# Altium schematic symbol library SamacSys.SchLib: 215 symbols (part 1 of 3)
Pins are listed as number, name and electrical type; pins without a type are passive.

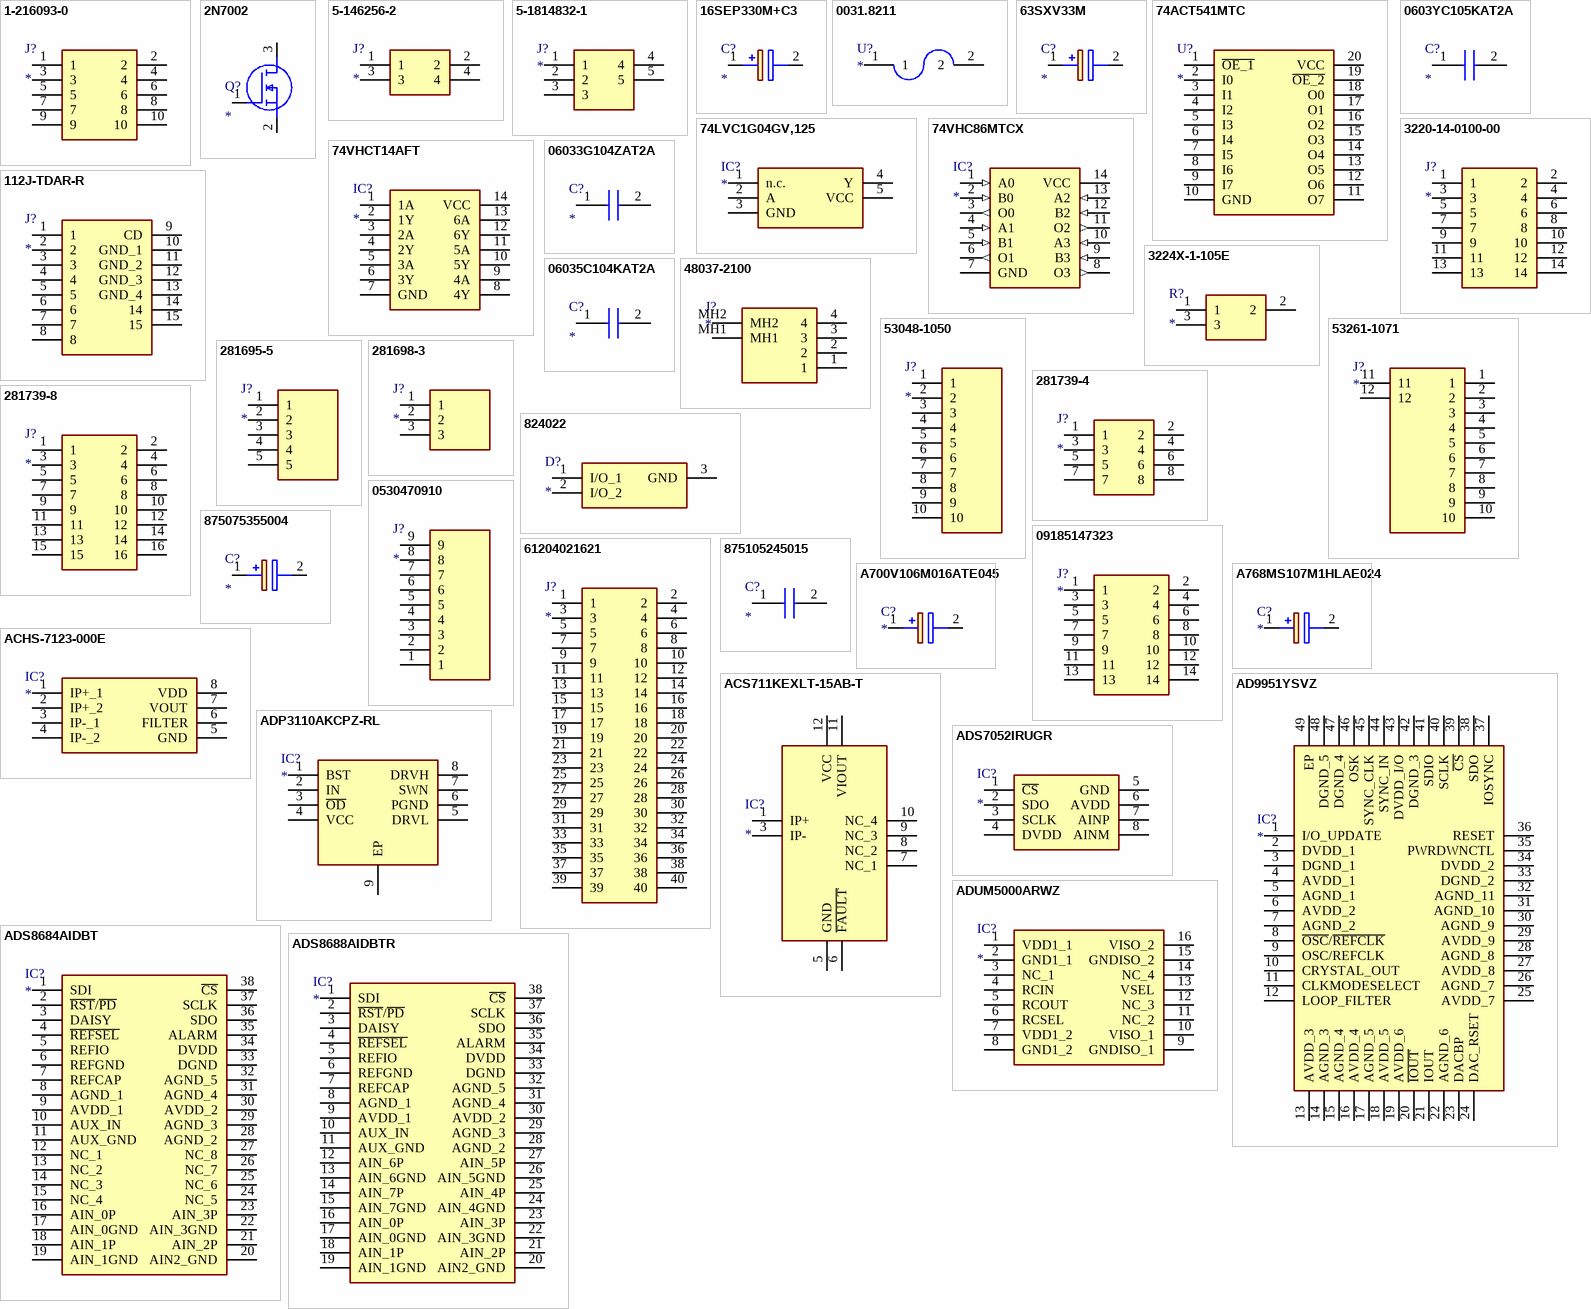
[diagram p0: symbols 1-216093-0 to ADUM5000ARWZ]

## 1-216093-0
designator J?
Connector; Manufacturer_Name: TE Connectivity; Manufacturer_Part_Number: 1-216093-0; Datasheet Link: https://componentsearchengine.com/Datasheets/2/1-216093-0.pdf; Height: 6.8mm; Mouser Part Number: 571-1-216093-0; Mouser Price/Stock: https://www.mouser.co.uk/ProductDetail/TE-Connectivity/1-216093-0?qs=m7RwewakXS%2F9HSJylQnIAQ%3D%3D; Arrow Part Number: 1-216093-0; Arrow Price/Stock: https://www.arrow.com/en/products/1-216093-0/te-connectivity?region=europe
footprint 12160930
pins: 1, 2, 3, 4, 5, 6, 7, 8, 9, 10

## 2N7002
designator Q?
MOSFET (N-Channel); Manufacturer_Name: Vishay; Manufacturer_Part_Number: 2N7002; Datasheet Link: https://www.diodes.com/assets/Datasheets/ds11303.pdf; Height: 1.2mm; Mouser Part Number: 781-2N7002; Mouser Price/Stock: https://www.mouser.co.uk/ProductDetail/Vishay-Siliconix/2N7002?qs=xBpwZ0JX2zKeuvZKtdYLZQ%3D%3D
footprint SOT96P240X120-3N
pins: 1 G, 2 S, 3 D

## 5-146256-2
designator J?
Connector; Manufacturer_Name: TE Connectivity; Manufacturer_Part_Number: 5-146256-2; Datasheet Link: http://www.mouser.com/ds/2/418/NG_CD_146256_H-649289.pdf; Height: 8.21mm; Mouser Part Number: 571-5-146256-2; Mouser Price/Stock: https://www.mouser.co.uk/ProductDetail/TE-Connectivity/5-146256-2?qs=bwpFY26eRVdXggapabV2vQ%3D%3D; Arrow Part Number: 5-146256-2; Arrow Price/Stock: https://www.arrow.com/en/products/5-146256-2/te-connectivity?region=nac
footprint HDRV4W77P254_2X2_467X488X821P
pins: 1, 2, 3, 4

## 5-1814832-1
designator J?
Connector; Manufacturer_Name: TE Connectivity; Manufacturer_Part_Number: 5-1814832-1; Datasheet Link: http://www.te.com/commerce/DocumentDelivery/DDEController?Action=srchrtrv&DocNm=1814832&DocType=Customer+Drawing&DocLang=English; Mouser Part Number: 571-5-1814832-1; Mouser Price/Stock: https://www.mouser.co.uk/ProductDetail/TE-Connectivity/5-1814832-1?qs=eORE%252BZ%252B0CrsFkn5eoDRxyQ%3D%3D; Arrow Part Number: 5-1814832-1; Arrow Price/Stock: https://www.arrow.com/en/products/5-1814832-1/te-connectivity
footprint 5-1814832-1
pins: 1, 2, 3, 4, 5

## 16SEP330M+C3
designator C?
Capacitor Polarised; Manufacturer_Name: Panasonic; Manufacturer_Part_Number: 16SEP330M+C3; Datasheet Link: http://industrial.panasonic.com/cdbs/www-data/pdf/AAB8000/AAB8000C244.pdf; Height: 13mm
footprint CAPPRD500W65D1000H1300
pins: 1 +, 2 -

## 0031.8211
designator U?
Undefined or Miscellaneous; Manufacturer_Name: SCHURTER; Manufacturer_Part_Number: 0031.8211; Datasheet Link: https://datasheet.datasheetarchive.com/originals/distributors/Datasheets-AE/DSA3AE0000214.pdf; Height: 12.7mm; Mouser Part Number: 693-0031.8211; Mouser Price/Stock: https://www.mouser.co.uk/ProductDetail/Schurter/0031.8211?qs=A3q0b2L5bfhm%2FLmypQkxqA%3D%3D; Arrow Part Number: 0031.8211; Arrow Price/Stock: https://www.arrow.com/en/products/0031.8211/schurter?region=europe
footprint 00318211
pins: 1, 2

## 63SXV33M
designator C?
Capacitor Polarised; Manufacturer_Name: Panasonic; Manufacturer_Part_Number: 63SXV33M; Datasheet Link: http://industrial.panasonic.com/cdbs/www-data/pdf/AAB8000/AAB8000C259.pdf; Height: 12mm; Mouser Part Number: 667-63SXV33M; Mouser Price/Stock: https://www.mouser.co.uk/ProductDetail/Panasonic/63SXV33M?qs=LkACrQhHtvC3OEKZ9h0MUg%3D%3D; Arrow Part Number: 63SXV33M; Arrow Price/Stock: https://www.arrow.com/en/products/63sxv33m/panasonic?region=nac
footprint 16SVPT560M
pins: 1 +, 2 -

## 74ACT541MTC
designator U?
Undefined or Miscellaneous; Manufacturer_Name: ON Semiconductor; Manufacturer_Part_Number: 74ACT541MTC; Datasheet Link: http://componentsearchengine.com/Datasheets/3/74ACT541MTC.pdf; Height: 1.2mm; Mouser Part Number: 512-74ACT541MTC; Mouser Price/Stock: https://www.mouser.co.uk/ProductDetail/ON-Semiconductor-Fairchild/74ACT541MTC?qs=LU5rZWrBGo0UUOz6%2FnzTVw%3D%3D; Arrow Part Number: 74ACT541MTC; Arrow Price/Stock: https://www.arrow.com/en/products/74act541mtc/on-semiconductor
footprint SOP65P640X120-20N
pins: 1 ~{OE_1}, 2 I0, 3 I1, 4 I2, 5 I3, 6 I4, 7 I5, 8 I6, 9 I7, 10 GND, 11 O7, 12 O6, 13 O5, 14 O4, 15 O3, 16 O2, 17 O1, 18 O0, 19 ~{OE_2}, 20 VCC

## 74LVC1G04GV,125
designator IC?
Integrated Circuit; Manufacturer_Name: Nexperia; Manufacturer_Part_Number: 74LVC1G04GV,125; Datasheet Link: https://assets.nexperia.com/documents/data-sheet/74LVC1G04.pdf; Height: 1.1mm; Mouser Part Number: 771-74LVC1G04GV; Mouser Price/Stock: https://www.mouser.co.uk/ProductDetail/Nexperia/74LVC1G04GV125?qs=me8TqzrmIYW6McwMAxl%2F9w%3D%3D; Arrow Part Number: 74LVC1G04GV,125; Arrow Price/Stock: https://www.arrow.com/en/products/74lvc1g04gv125/nexperia
footprint SOT95P275X110-5N
pins: 1 n.c., 2 A, 3 GND, 4 Y, 5 VCC

## 74VHC86MTCX
designator IC?
Integrated Circuit; Manufacturer_Name: onsemi; Manufacturer_Part_Number: 74VHC86MTCX; Datasheet Link: https://www.mouser.ch/datasheet/2/308/74VHC86_D-2309908.pdf; Height: 1.2mm; Mouser Part Number: 512-74VHC86MTCX; Mouser Price/Stock: https://www.mouser.co.uk/ProductDetail/ON-Semiconductor-Fairchild/74VHC86MTCX?qs=TzyeOYydVKV63btw14td%252BQ%3D%3D; Arrow Part Number: 74VHC86MTCX; Arrow Price/Stock: https://www.arrow.com/en/products/74vhc86mtcx/on-semiconductor
footprint SOP65P640X120-14N
pins: 1 A0 (in), 2 B0 (in), 3 O0 (out), 4 A1 (in), 5 B1 (in), 6 O1 (out), 7 GND (power), 8 O3 (out), 9 B3 (in), 10 A3 (in), 11 O2 (out), 12 B2 (in), 13 A2 (in), 14 VCC (power)

## 74VHCT14AFT
designator IC?
Integrated Circuit; Manufacturer_Name: Toshiba; Manufacturer_Part_Number: 74VHCT14AFT; Datasheet Link: http://uk.rs-online.com/web/p/products/1713361; Height: 1.2mm; Mouser Part Number: N/A; Mouser Price/Stock: https://www.mouser.com/Search/Refine.aspx?Keyword=N%2FA
footprint SOP65P640X120-14N
pins: 1 1A, 2 1Y, 3 2A, 4 2Y, 5 3A, 6 3Y, 7 GND, 8 4Y, 9 4A, 10 5Y, 11 5A, 12 6Y, 13 6A, 14 VCC

## 112J-TDAR-R
designator J?
Connector; Manufacturer_Name: ATTEND; Manufacturer_Part_Number: 112J-TDAR-R; Datasheet Link: https://sds.compel.ru/item-pdf/04106748b1d2c9285eaa335c34b51c16/ps/attend~112j-tdar-r.pdf; Height: 1mm
footprint 112JTDARR
pins: 1, 2, 3, 4, 5, 6, 7, 8, 9 CD, 10 GND_1, 11 GND_2, 12 GND_3, 13 GND_4, 14, 15

## 0603YC105KAT2A
designator C?
Capacitor; Manufacturer_Name: AVX; Manufacturer_Part_Number: 0603YC105KAT2A; Datasheet Link: http://www.mouser.com/catalog/supplier/library/pdf/AVXSurfaceMountCeramic.pdf; Height: 0.9mm; Mouser Part Number: 581-0603YC105KAT2A; Mouser Price/Stock: https://www.mouser.co.uk/ProductDetail/AVX/0603YC105KAT2A?qs=oZHZyJ9sPsF0nYEZ1SOhJA%3D%3D; Arrow Part Number: 0603YC105KAT2A; Arrow Price/Stock: https://www.arrow.com/en/products/0603yc105kat2a/avx?region=nac
footprint CAPC1608X90N
pins: 1, 2

## 3220-14-0100-00
designator J?
Connector; Manufacturer_Name: CNC Tech; Manufacturer_Part_Number: 3220-14-0100-00; Datasheet Link: https://datasheet.datasheetarchive.com/originals/dk/DKDS-7/133059.pdf; Height: 5.6mm
footprint 322014010000
pins: 1, 2, 3, 4, 5, 6, 7, 8, 9, 10, 11, 12, 13, 14

## 3224X-1-105E
designator R?
Resistor; Manufacturer_Name: Bourns; Manufacturer_Part_Number: 3224X-1-105E; Datasheet Link: https://www.bourns.com/docs/Product-Datasheets/3224.pdf; Height: 5mm; Mouser Part Number: 652-3224X-1-105E; Mouser Price/Stock: https://www.mouser.co.uk/ProductDetail/Bourns/3224X-1-105E?qs=tEaODSGlU8OES45Zo8R5qQ%3D%3D; Arrow Part Number: 3224X-1-105E; Arrow Price/Stock: https://www.arrow.com/en/products/3224x-1-105e/bourns?region=nac
footprint 3224X1502E
pins: 1, 2, 3

## 06033G104ZAT2A
designator C?
Capacitor; Manufacturer_Name: AVX; Manufacturer_Part_Number: 06033G104ZAT2A; Datasheet Link: http://www.mouser.com/catalog/supplier/library/pdf/AVXSurfaceMountCeramic.pdf; Height: 0.9mm; Mouser Part Number: 581-06033G104Z; Mouser Price/Stock: https://www.mouser.co.uk/ProductDetail/AVX/06033G104ZAT2A?qs=NXubJDmysXJMPmHfVo6Z%252BA%3D%3D; Arrow Part Number: 06033G104ZAT2A; Arrow Price/Stock: https://www.arrow.com/en/products/06033g104zat2a/avx?region=nac
footprint CAPC1608X90N
pins: 1, 2

## 06035C104KAT2A
designator C?
Capacitor; Manufacturer_Name: AVX; Manufacturer_Part_Number: 06035C104KAT2A; Datasheet Link: http://datasheets.avx.com/X7RDielectric.pdf; Height: 0.9mm; Mouser Part Number: 581-06035C104KAT2A; Mouser Price/Stock: https://www.mouser.co.uk/ProductDetail/AVX/06035C104KAT2A?qs=wORnlwVG%2F0dQ8Y%2FnMEnCGg%3D%3D; Arrow Part Number: 06035C104KAT2A; Arrow Price/Stock: https://www.arrow.com/en/products/06035c104kat2a/avx?region=europe
footprint CAPC1608X90N
pins: 1, 2

## 48037-2100
designator J?
Connector; Manufacturer_Name: Molex; Manufacturer_Part_Number: 48037-2100; Datasheet Link: https://componentsearchengine.com/Datasheets/1/48037-2100.pdf; Height: 4.5mm; Mouser Part Number: 538-48037-2100; Mouser Price/Stock: https://www.mouser.co.uk/ProductDetail/Molex/48037-2100?qs=Zgxf4oYje4F2MlwVpzV45Q%3D%3D
footprint 480372100
pins: 1, 2, 3, 4, MH1, MH2

## 53048-1050
designator J?
Connector; Manufacturer_Name: Molex; Manufacturer_Part_Number: 53048-1050; Datasheet Link: https://www.mouser.com/datasheet/2/276/0530481050_PCB_HEADERS-1532231.pdf; Height: 3.5mm; Mouser Part Number: 538-53048-1050; Mouser Price/Stock: https://www.mouser.co.uk/ProductDetail/Molex/53048-1050?qs=0lSvoLzn4L%252B50FRVV9pEsg%3D%3D
footprint SHDRRA10W25P0X125_1X10_1425X550X350P
pins: 1, 2, 3, 4, 5, 6, 7, 8, 9, 10

## 53261-1071
designator J?
Connector; Manufacturer_Name: Molex; Manufacturer_Part_Number: 53261-1071; Datasheet Link: https://www.molex.com/webdocs/datasheets/pdf/en-us/0532611071_PCB_HEADERS.pdf; Height: 3mm; Mouser Part Number: 538-53261-1071; Mouser Price/Stock: https://www.mouser.co.uk/ProductDetail/Molex/53261-1071?qs=%252B72YyncTwW%252Bzs3RwZTiukQ%3D%3D
footprint 532611071
pins: 1, 2, 3, 4, 5, 6, 7, 8, 9, 10, 11, 12

## 281695-5
designator J?
Connector; Manufacturer_Name: TE Connectivity; Manufacturer_Part_Number: 281695-5; Datasheet Link: https://componentsearchengine.com/Datasheets/2/281695-5.pdf; Height: 11.4mm; Mouser Part Number: 571-281695-5; Mouser Price/Stock: https://www.mouser.co.uk/ProductDetail/TE-Connectivity/281695-5?qs=haDgrSvkbl%252BIukkO2ss87w%3D%3D; Arrow Part Number: 281695-5; Arrow Price/Stock: https://www.arrow.com/en/products/281695-5/te-connectivity?region=nac
footprint SHDR5W65P0X254_1X5_1270X508X1140P
pins: 1, 2, 3, 4, 5

## 281698-3
designator J?
Connector; Manufacturer_Name: TE Connectivity; Manufacturer_Part_Number: 281698-3; Datasheet Link: http://www.te.com/commerce/DocumentDelivery/DDEController?Action=showdoc&DocId=Customer+Drawing%7F281698%7FG1%7Fpdf%7FEnglish%7FENG_CD_281698_G1.pdf%7F281698-3; Height: 5.08mm; Mouser Part Number: 571-281698-3; Mouser Price/Stock: https://www.mouser.co.uk/ProductDetail/TE-Connectivity/281698-3?qs=haDgrSvkbl92Dq0gx1tdRA%3D%3D; Arrow Part Number: 281698-3; Arrow Price/Stock: https://www.arrow.com/en/products/281698-3/te-connectivity?region=europe
footprint SHDRRA3W65P0X254_1X3_762X1070X508P
pins: 1, 2, 3

## 281739-4
designator J?
Connector; Manufacturer_Name: TE Connectivity; Manufacturer_Part_Number: 281739-4; Datasheet Link: http://uk.rs-online.com/web/p/pcb-headers/532052/?source=DS; Height: 11.5mm; Mouser Part Number: 571-281739-4; Mouser Price/Stock: https://www.mouser.co.uk/ProductDetail/TE-Connectivity/281739-4?qs=Nd1%2FbcG3cCIEra07UNqvhw%3D%3D; Arrow Part Number: 281739-4; Arrow Price/Stock: https://www.arrow.com/en/products/281739-4/te-connectivity
footprint SHDR8W65P254_2X4_1016X762X1150P
pins: 1, 2, 3, 4, 5, 6, 7, 8

## 281739-8
designator J?
Connector; Manufacturer_Name: TE Connectivity; Manufacturer_Part_Number: 281739-8; Datasheet Link: https://componentsearchengine.com/Datasheets/2/281739-8.pdf; Height: 11.5mm; Mouser Part Number: 571-281739-8; Mouser Price/Stock: https://www.mouser.co.uk/ProductDetail/TE-Connectivity/281739-8?qs=Nd1%2FbcG3cCJFokek%2F3QmIQ%3D%3D; Arrow Part Number: 281739-8; Arrow Price/Stock: https://www.arrow.com/en/products/281739-8/te-connectivity
footprint SHDR16W65P254_2X8_2032X762X1150P
pins: 1, 2, 3, 4, 5, 6, 7, 8, 9, 10, 11, 12, 13, 14, 15, 16

## 824022
designator D?
Diode; Manufacturer_Name: Wurth Elektronik; Manufacturer_Part_Number: 824022; Datasheet Link: http://uk.rs-online.com/web/p/products/1623818; Height: 1.2mm; Mouser Part Number: 710-824022; Mouser Price/Stock: https://www.mouser.co.uk/ProductDetail/Wurth-Elektronik/824022?qs=Wn16VcyqZWoE6sTDUBlUiQ%3D%3D
footprint SOT95P240X120-3N
pins: 1 I/O_1, 2 I/O_2, 3 GND

## 0530470910
designator J?
Connector; Manufacturer_Name: Molex; Manufacturer_Part_Number: 0530470910; Datasheet Link: https://www.molex.com/pdm_docs/sd/530470910_sd.pdf; Height: 4.4mm; Arrow Part Number: 0530470910; Arrow Price/Stock: https://www.arrow.com/en/products/0530470910/molex
footprint 0530470910
pins: 1, 2, 3, 4, 5, 6, 7, 8, 9

## 09185147323
designator J?
Connector; Manufacturer_Name: HARTING; Manufacturer_Part_Number: 09185147323; Datasheet Link: https://b2b.harting.com/files/download/PRD/PDF_TS/09185XXX323_100154466DRW007A.pdf; Height: 9.3mm; Mouser Part Number: 617-09-18-514-7323; Mouser Price/Stock: https://www.mouser.com/Search/Refine.aspx?Keyword=617-09-18-514-7323; Arrow Part Number: 09185147323; Arrow Price/Stock: https://www.arrow.com/en/products/09185147323/harting
footprint SHDRRA14W90P254_2X7_2560X890X930P
pins: 1, 2, 3, 4, 5, 6, 7, 8, 9, 10, 11, 12, 13, 14

## 61204021621
designator J?
Connector; Manufacturer_Name: Wurth Elektronik; Manufacturer_Part_Number: 61204021621; Datasheet Link: http://katalog.we-online.de/em/datasheet/6120xx21621%282%29.pdf; Height: 9.25mm; Mouser Part Number: 710-61204021621; Mouser Price/Stock: https://www.mouser.co.uk/ProductDetail/Wurth-Elektronik/61204021621?qs=PhR8RmCirEaUSXS3CoqGQQ%3D%3D
footprint SHDR40W79P254X254_2X20_5846X910X925P
pins: 1, 2, 3, 4, 5, 6, 7, 8, 9, 10, 11, 12, 13, 14, 15, 16, 17, 18, 19, 20, 21, 22, 23, 24, 25, 26, 27, 28, 29, 30, 31, 32, 33, 34, 35, 36, 37, 38, 39, 40

## 875075355004
designator C?
Capacitor Polarised; Manufacturer_Name: Wurth Elektronik; Manufacturer_Part_Number: 875075355004; Datasheet Link: https://altium.componentsearchengine.com/Datasheets/3/875075355004.pdf; Height: 11.7mm; Mouser Part Number: 710-875075355004; Mouser Price/Stock: https://www.mouser.com/Search/Refine.aspx?Keyword=710-875075355004
footprint CAPAE830X1170N
pins: 1 +, 2 -

## 875105245015
designator C?
Capacitor; Manufacturer_Name: Wurth Elektronik; Manufacturer_Part_Number: 875105245015; Datasheet Link: https://www.we-online.com/components/products/datasheet/875105245015.pdf; Height: 7.7mm; Mouser Part Number: 710-875105245015; Mouser Price/Stock: https://www.mouser.co.uk/ProductDetail/Wurth-Elektronik/875105245015?qs=0KOYDY2FL2%252B883tIZS5%252BFg%3D%3D
footprint CAPAE660X770N
pins: 1 +, 2 -

## A700V106M016ATE045
designator C?
Capacitor Polarised; Manufacturer_Name: KEMET; Manufacturer_Part_Number: A700V106M016ATE045; Datasheet Link: https://content.kemet.com/datasheets/KEM_T2020_A700.pdf; Height: 2mm; Mouser Part Number: 80-A700V106M16E45; Mouser Price/Stock: https://www.mouser.co.uk/ProductDetail/KEMET/A700V106M016ATE045?qs=vIXc3t25diAUKxzJ4krppg%3D%3D; Arrow Part Number: A700V106M016ATE045; Arrow Price/Stock: https://www.arrow.com/en/products/a700v106m016ate045/kemet-corporation?region=nac
footprint CAPPM7343X200N
pins: 1 +, 2 -

## A768MS107M1HLAE024
designator C?
Capacitor Polarised; Manufacturer_Name: KEMET; Manufacturer_Part_Number: A768MS107M1HLAE024; Datasheet Link: https://content.kemet.com/datasheets/KEM_A4088_A768.pdf; Height: 10.3mm; Mouser Part Number: 80-A768MS107M1HLAE24; Mouser Price/Stock: https://www.mouser.co.uk/ProductDetail/KEMET/A768MS107M1HLAE024?qs=vmHwEFxEFR%2FLiIpdEfNL5w%3D%3D; Arrow Part Number: A768MS107M1HLAE024; Arrow Price/Stock: https://www.arrow.com/en/products/a768ms107m1hlae024/kemet-corporation?region=nac
footprint CAPAE1030X1030N
pins: 1 +, 2 -

## ACHS-7123-000E
designator IC?
Integrated Circuit; Manufacturer_Name: Avago Technologies; Manufacturer_Part_Number: ACHS-7123-000E; Datasheet Link: https://datasheet.datasheetarchive.com/originals/distributors/Datasheets_SAMA/85fe2f5daf3917ca61a2261dca329268.pdf; Height: 2.035mm; Mouser Part Number: 630-ACHS-7123-000E; Mouser Price/Stock: https://www.mouser.co.uk/ProductDetail/Broadcom-Avago/ACHS-7123-000E?qs=w%2Fv1CP2dgqqiNyZEYkpD6A%3D%3D
footprint SOIC127P606X204-8N
pins: 1 IP+_1, 2 IP+_2, 3 IP-_1, 4 IP-_2, 5 GND, 6 FILTER, 7 VOUT, 8 VDD

## ACS711KEXLT-15AB-T
designator IC?
Integrated Circuit; Manufacturer_Name: Allegro Microsystems; Manufacturer_Part_Number: ACS711KEXLT-15AB-T; Datasheet Link: https://www.allegromicro.com/-/media/files/datasheets/acs711-datasheet.pdf; Height: 0.8mm; Arrow Part Number: ACS711KEXLT-15AB-T; Arrow Price/Stock: https://www.arrow.com/en/products/acs711kexlt-15ab-t/allegro-microsystems
footprint ACS711KEXLT15ABT
pins: 1 IP+, 3 IP-, 5 GND, 6 ~{FAULT}, 7 NC_1, 8 NC_2, 9 NC_3, 10 NC_4, 11 VIOUT, 12 VCC

## AD9951YSVZ
designator IC?
Integrated Circuit; Manufacturer_Name: Analog Devices; Manufacturer_Part_Number: AD9951YSVZ; Datasheet Link: http://www.analog.com/static/imported-files/data_sheets/AD9951.pdf; Height: 1.2mm; Mouser Part Number: 584-AD9951YSVZ; Mouser Price/Stock: https://www.mouser.co.uk/ProductDetail/Analog-Devices/AD9951YSVZ?qs=BpaRKvA4VqEta6TKo8lXqg%3D%3D; Arrow Part Number: AD9951YSVZ; Arrow Price/Stock: https://www.arrow.com/en/products/ad9951ysvz/analog-devices
footprint QFP50P900X900X120-49N
pins: 1 I/O_UPDATE, 2 DVDD_1, 3 DGND_1, 4 AVDD_1, 5 AGND_1, 6 AVDD_2, 7 AGND_2, 8 ~{OSC}/~{REFCLK}, 9 OSC/REFCLK, 10 CRYSTAL_OUT, 11 CLKMODESELECT, 12 LOOP_FILTER, 13 AVDD_3, 14 AGND_3, 15 AGND_4, 16 AVDD_4, 17 AGND_5, 18 AVDD_5, 19 AVDD_6, 20 ~{IOUT}, 21 IOUT, 22 AGND_6, 23 DACBP, 24 DAC_RSET, 25 AVDD_7, 26 AGND_7, 27 AVDD_8, 28 AGND_8, 29 AVDD_9, 30 AGND_9, 31 AGND_10, 32 AGND_11, 33 DGND_2, 34 DVDD_2, 35 PWRDWNCTL, 36 RESET, 37 IOSYNC, 38 SDO, 39 ~{CS}, 40 SCLK, 41 SDIO, 42 DGND_3, 43 DVDD_I/O, 44 SYNC_IN, 45 SYNC_CLK, 46 OSK, 47 DGND_4, 48 DGND_5, 49 EP

## ADP3110AKCPZ-RL
designator IC?
Integrated Circuit; Manufacturer_Name: onsemi; Manufacturer_Part_Number: ADP3110AKCPZ-RL; Datasheet Link: http://www.onsemi.com/pub/Collateral/ADP3110A-D.PDF; Height: 1mm; Mouser Part Number: 863-ADP3110AKCPZ-RL; Mouser Price/Stock: https://www.mouser.co.uk/ProductDetail/ON-Semiconductor/ADP3110AKCPZ-RL?qs=t2BMfLoP1KSx%2FvThl35SBw%3D%3D; Arrow Part Number: ADP3110AKCPZ-RL; Arrow Price/Stock: https://www.arrow.com/en/products/adp3110akcpz-rl/on-semiconductor
footprint SON50P300X300X100-9N
pins: 1 BST, 2 IN, 3 ~{OD}, 4 VCC, 5 DRVL, 6 PGND, 7 SWN, 8 DRVH, 9 EP

## ADS7052IRUGR
designator IC?
Integrated Circuit; Manufacturer_Name: Texas Instruments; Manufacturer_Part_Number: ADS7052IRUGR; Datasheet Link: http://www.ti.com/lit/gpn/ads7052; Height: 0.4mm; Mouser Part Number: 595-ADS7052IRUGR; Mouser Price/Stock: https://www.mouser.co.uk/ProductDetail/Texas-Instruments/ADS7052IRUGR?qs=W0yvOO0ixfFB3KG9KldgOw%3D%3D; Arrow Part Number: ADS7052IRUGR; Arrow Price/Stock: https://www.arrow.com/en/products/ads7052irugr/texas-instruments?region=nac
footprint ADS7052IRUGR
pins: 1 ~{CS}, 2 SDO, 3 SCLK, 4 DVDD, 5 GND, 6 AVDD, 7 AINP, 8 AINM

## ADS8684AIDBT
designator IC?
Integrated Circuit; Manufacturer_Name: Texas Instruments; Manufacturer_Part_Number: ADS8684AIDBT; Datasheet Link: http://www.ti.com/lit/gpn/ads8684a; Height: 1.2mm; Mouser Part Number: 595-ADS8684AIDBT; Mouser Price/Stock: https://www.mouser.co.uk/ProductDetail/Texas-Instruments/ADS8684AIDBT?qs=xufs61hA5Ma%2F6HAgNPp8cg%3D%3D; Arrow Part Number: ADS8684AIDBT; Arrow Price/Stock: https://www.arrow.com/en/products/ads8684aidbt/texas-instruments
footprint SOP50P640X120-38N
pins: 1 SDI, 2 ~{RST}/~{PD}, 3 DAISY, 4 ~{REFSEL}, 5 REFIO, 6 REFGND, 7 REFCAP, 8 AGND_1, 9 AVDD_1, 10 AUX_IN, 11 AUX_GND, 12 NC_1, 13 NC_2, 14 NC_3, 15 NC_4, 16 AIN_0P, 17 AIN_0GND, 18 AIN_1P, 19 AIN_1GND, 20 AIN2_GND, 21 AIN_2P, 22 AIN_3GND, 23 AIN_3P, 24 NC_5, 25 NC_6, 26 NC_7, 27 NC_8, 28 AGND_2, 29 AGND_3, 30 AVDD_2, 31 AGND_4, 32 AGND_5, 33 DGND, 34 DVDD, 35 ALARM, 36 SDO, 37 SCLK, 38 ~{CS}

## ADS8688AIDBTR
designator IC?
Integrated Circuit; Manufacturer_Name: Texas Instruments; Manufacturer_Part_Number: ADS8688AIDBTR; Datasheet Link: https://www.arrow.com/en/products/ads8688aidbtr/texas-instruments; Height: 1.2mm; Mouser Part Number: 595-ADS8688AIDBTR; Mouser Price/Stock: https://www.mouser.co.uk/ProductDetail/Texas-Instruments/ADS8688AIDBTR?qs=xufs61hA5MZjj6ESarhC1A%3D%3D; Arrow Part Number: ADS8688AIDBTR; Arrow Price/Stock: https://www.arrow.com/en/products/ads8688aidbtr/texas-instruments?region=nac
footprint SOP50P640X120-38N
pins: 1 SDI, 2 ~{RST}/~{PD}, 3 DAISY, 4 ~{REFSEL}, 5 REFIO, 6 REFGND, 7 REFCAP, 8 AGND_1, 9 AVDD_1, 10 AUX_IN, 11 AUX_GND, 12 AIN_6P, 13 AIN_6GND, 14 AIN_7P, 15 AIN_7GND, 16 AIN_0P, 17 AIN_0GND, 18 AIN_1P, 19 AIN_1GND, 20 AIN2_GND, 21 AIN_2P, 22 AIN_3GND, 23 AIN_3P, 24 AIN_4GND, 25 AIN_4P, 26 AIN_5GND, 27 AIN_5P, 28 AGND_2, 29 AGND_3, 30 AVDD_2, 31 AGND_4, 32 AGND_5, 33 DGND, 34 DVDD, 35 ALARM, 36 SDO, 37 SCLK, 38 ~{CS}

## ADUM5000ARWZ
designator IC?
Integrated Circuit; Manufacturer_Name: Analog Devices; Manufacturer_Part_Number: ADUM5000ARWZ; Datasheet Link: https://datasheet.datasheetarchive.com/originals/distributors/Datasheets-SFU1/DSASFU10005517.pdf; Height: 2.65mm; Mouser Part Number: 584-ADUM5000ARWZ; Mouser Price/Stock: https://www.mouser.co.uk/ProductDetail/Analog-Devices/ADUM5000ARWZ?qs=WIvQP4zGanhtQujw%2FAjUEw%3D%3D; Arrow Part Number: ADUM5000ARWZ; Arrow Price/Stock: https://www.arrow.com/en/products/adum5000arwz/analog-devices?region=nac
footprint SOIC127P1032X265-16N
pins: 1 VDD1_1, 2 GND1_1, 3 NC_1, 4 RCIN, 5 RCOUT, 6 RCSEL, 7 VDD1_2, 8 GND1_2, 9 GNDISO_1, 10 VISO_1, 11 NC_2, 12 NC_3, 13 VSEL, 14 NC_4, 15 GNDISO_2, 16 VISO_2

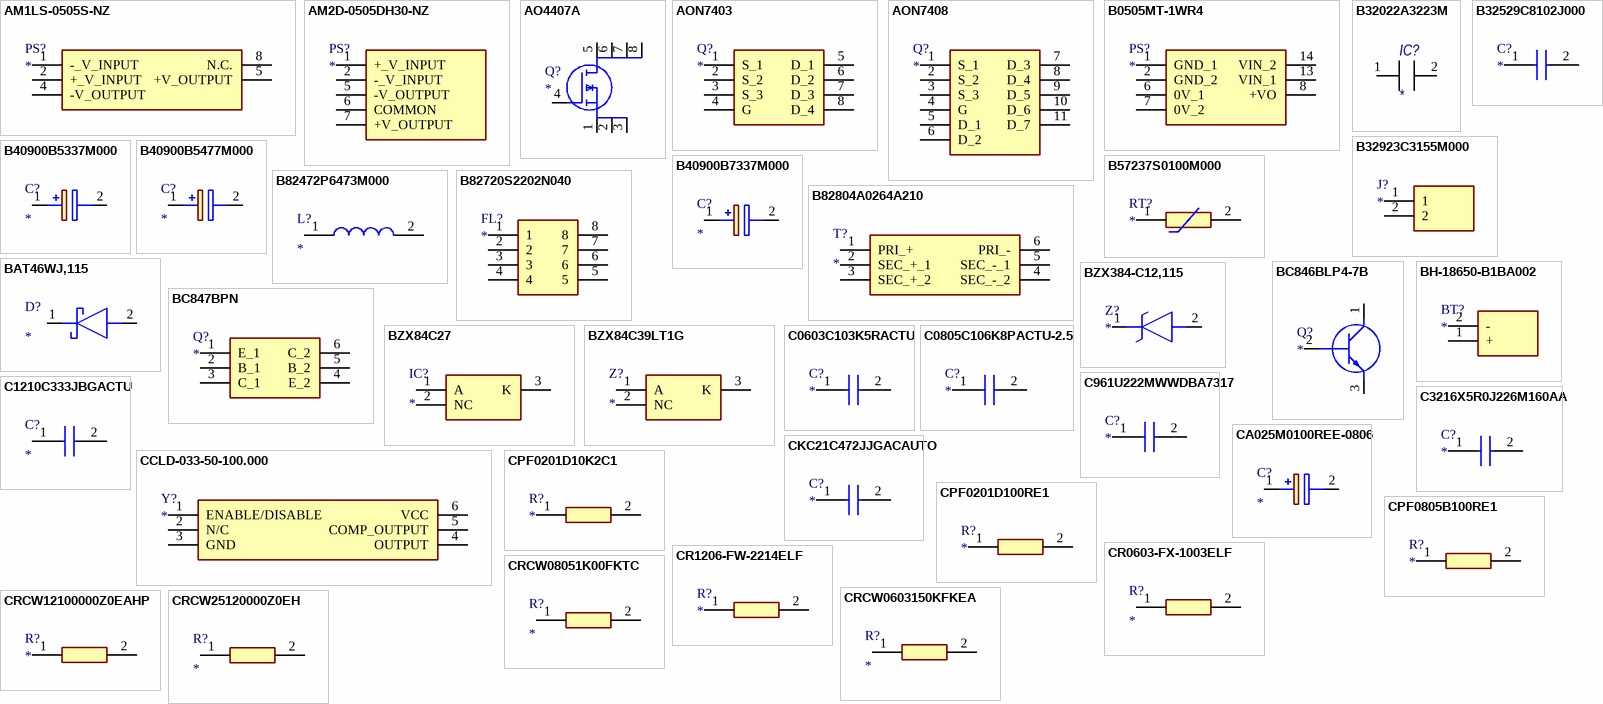
[diagram p1: symbols AM1LS-0505S-NZ to CRCW25120000Z0EH]

## AM1LS-0505S-NZ
designator PS?
Power Supply; Manufacturer_Name: aimtec; Manufacturer_Part_Number: AM1LS-0505S-NZ; Datasheet Link: https://4donline.ihs.com/images/VipMasterIC/IC/AIMT/AIMT-S-A0013272433/AIMT-S-A0013272851-1.pdf?hkey=EF798316E3902B6ED9A73243A3159BB0; Height: 7mm; Arrow Part Number: AM1LS-0505S-NZ; Arrow Price/Stock: https://www.arrow.com/en/products/am1ls-0505s-nz/aimtec?region=europe
footprint AM1LS0505SNZ
pins: 1 -_V_INPUT, 2 +_V_INPUT, 4 -V_OUTPUT, 5 +V_OUTPUT, 8 N.C.

## AM2D-0505DH30-NZ
designator PS?
Power Supply; Manufacturer_Name: aimtec; Manufacturer_Part_Number: AM2D-0505DH30-NZ; Datasheet Link: https://datasheet.datasheetarchive.com/originals/distributors/Datasheets-1/DSA-12362.pdf; Height: 10mm
footprint AM2D0505DH30NZ
pins: 1 +_V_INPUT, 2 -_V_INPUT, 5 -V_OUTPUT, 6 COMMON, 7 +V_OUTPUT

## AO4407A
designator Q?
Transistor; Manufacturer_Name: Alpha & Omega Semiconductors; Manufacturer_Part_Number: AO4407A; Datasheet Link: http://aosmd.com/res/data_sheets/AO4407A.pdf; Height: 1.75mm; Arrow Part Number: AO4407A; Arrow Price/Stock: https://www.arrow.com/en/products/ao4407a/alpha-and-omega-semiconductor?region=nac
footprint SOIC127P600X175-8N
pins: 1 G, 2 S, 3 D, 4 D, 5 D, 6 D, 7 D, 8 D

## AON7403
designator Q?
MOSFET (P-Channel); Manufacturer_Name: Alpha & Omega Semiconductors; Manufacturer_Part_Number: AON7403; Datasheet Link: http://aosmd.com/res/data_sheets/AON7403.pdf; Arrow Part Number: AON7403; Arrow Price/Stock: https://www.arrow.com/en/products/aon7403/alpha-and-omega-semiconductor
footprint DFN_3X3_EP
pins: 1 S_1, 2 S_2, 3 S_3, 4 G, 5 D_1, 6 D_2, 7 D_3, 8 D_4

## AON7408
designator Q?
MOSFET (N-Channel); Manufacturer_Name: Alpha & Omega Semiconductors; Manufacturer_Part_Number: AON7408; Datasheet Link: https://datasheet.lcsc.com/szlcsc/1910101232_Alpha-Omega-Semicon-AOS-AON7408_C431193.pdf; Height: 0.9mm; Arrow Part Number: AON7408; Arrow Price/Stock: https://www.arrow.com/en/products/aon7408/alpha-and-omega-semiconductor
footprint AON7408
pins: 1 S_1, 2 S_2, 3 S_3, 4 G, 5 D_1, 6 D_2, 7 D_3, 8 D_4, 9 D_5, 10 D_6, 11 D_7

## B0505MT-1WR4
designator PS?
Power Supply; Manufacturer_Name: Mornsun Power; Manufacturer_Part_Number: B0505MT-1WR4; Datasheet Link: https://www.mornsun-power.com/html/pdf/B0505MT-1WR4.html; Height: 3.4mm
footprint B0505MT1WR4
pins: 1 GND_1, 2 GND_2, 6 0V_1, 7 0V_2, 8 +VO, 13 VIN_1, 14 VIN_2

## B32022A3223M
designator IC?
Integrated Circuit; Manufacturer_Name: TDK; Manufacturer_Part_Number: B32022A3223M; Datasheet Link: https://componentsearchengine.com/Datasheets/1/B32022A3223M.pdf; Height: 12mm; Mouser Part Number: 871-B32022A3223M; Mouser Price/Stock: https://www.mouser.co.uk/ProductDetail/EPCOS-TDK/B32022A3223M?qs=s21uN17y1i1kdj73CjRbsg%3D%3D; Arrow Part Number: B32022A3223M; Arrow Price/Stock: https://www.arrow.com/en/products/b32022a3223m/epcos-tdk
footprint B32022A3223M
pins: 1, 2

## B32529C8102J000
designator C?
Capacitor; Manufacturer_Name: TDK; Manufacturer_Part_Number: B32529C8102J000; Datasheet Link: https://product.tdk.com/system/files/dam/doc/product/capacitor/film/mkt/data_sheet/20/20/db/fc_2009/b32520_529.pdf; Height: 6.5mm
footprint B32529C8102J000
pins: 1, 2

## B32923C3155M000
designator J?
Connector; Manufacturer_Name: TDK; Manufacturer_Part_Number: B32923C3155M000; Datasheet Link: https://product.tdk.com/system/files/dam/doc/product/capacitor/film/emi/data_sheet/20/20/db/fc_2009/x2_b32921_928.pdf; Height: 22mm; Mouser Part Number: 871-B32923C3155M; Mouser Price/Stock: https://www.mouser.co.uk/ProductDetail/EPCOS-TDK/B32923C3155M000?qs=Gus83tocK7vyeUOStK4btA%3D%3D; Arrow Part Number: B32923C3155M000; Arrow Price/Stock: https://www.arrow.com/en/products/b32923c3155m000/epcos-tdk
footprint B32923C3155M000
pins: 1, 2

## B40900B5337M000
designator C?
Capacitor Polarised; Manufacturer_Name: TDK; Manufacturer_Part_Number: B40900B5337M000; Datasheet Link: https://product.tdk.com/system/files/dam/doc/product/capacitor/aluminum-electrolytic/hybrid-polymer/data_sheet/20/30/db/aec/b40900.pdf; Height: 10.5mm; Mouser Part Number: 871-B40900B5337M000; Mouser Price/Stock: https://www.mouser.co.uk/ProductDetail/EPCOS-TDK/B40900B5337M000?qs=P1JMDcb91o65iPzpx1cArg%3D%3D
footprint CAPAE1030X1050N
pins: 1 +, 2 -

## B40900B5477M000
designator C?
Capacitor Polarised; Manufacturer_Name: TDK; Manufacturer_Part_Number: B40900B5477M000; Datasheet Link: https://product.tdk.com/system/files/dam/doc/product/capacitor/aluminum-electrolytic/hybrid-polymer/data_sheet/20/30/db/aec/b40900.pdf; Height: 12.8mm; Mouser Part Number: 871-B40900B5477M000; Mouser Price/Stock: https://www.mouser.co.uk/ProductDetail/EPCOS-TDK/B40900B5477M000?qs=sPbYRqrBIVkjJ1xmSzm%2FSw%3D%3D
footprint CAPAE1030X1280N
pins: 1 +, 2 -

## B40900B7337M000
designator C?
Capacitor Polarised; Manufacturer_Name: TDK; Manufacturer_Part_Number: B40900B7337M000; Datasheet Link: https://product.tdk.com/system/files/dam/doc/product/capacitor/aluminum-electrolytic/hybrid-polymer/data_sheet/20/30/db/aec/b40900.pdf; Height: 12.8mm; Mouser Part Number: 871-B40900B7337M000; Mouser Price/Stock: https://www.mouser.co.uk/ProductDetail/EPCOS-TDK/B40900B7337M000?qs=sPbYRqrBIVkqbduMUlvWXg%3D%3D
footprint CAPAE1030X1280N
pins: 1 +, 2 -

## B57237S0100M000
designator RT?
Thermistor; Manufacturer_Name: TDK; Manufacturer_Part_Number: B57237S0100M000; Datasheet Link: https://product.tdk.com/system/files/dam/doc/product/protection/current/ntc-limiter/data_sheet/50/db/icl_16/s237.pdf; Height: 22mm; Mouser Part Number: 871-B57237S0100M000; Mouser Price/Stock: https://www.mouser.co.uk/ProductDetail/EPCOS-TDK/B57237S0100M000?qs=AKDv8POSxR0pd74RjN%2FD0Q%3D%3D; Arrow Part Number: B57237S0100M000; Arrow Price/Stock: https://www.arrow.com/en/products/b57237s0100m000/epcos-tdk
footprint B57237S0100M000
pins: 1, 2

## B82472P6473M000
designator L?
Inductor; Manufacturer_Name: TDK; Manufacturer_Part_Number: B82472P6473M000; Datasheet Link: https://product.tdk.com/system/files/dam/doc/product/inductor/inductor/smd/data_sheet/30/db/ind_2008/b82472p6.pdf; Height: 4.5mm; Mouser Part Number: 871-B82472P6473M000; Mouser Price/Stock: https://www.mouser.co.uk/ProductDetail/EPCOS-TDK/B82472P6473M000?qs=x3Z3TaiycdserVfAJdLUzQ%3D%3D
footprint INDPM7373X450N
pins: 1, 2

## B82720S2202N040
designator FL?
Filter; Manufacturer_Name: TDK; Manufacturer_Part_Number: B82720S2202N040; Datasheet Link: https://product.tdk.com/system/files/dam/doc/product/emc/emc/line-filter/data_sheet/30/db/ind_2008/b82720s.pdf; Height: 10.7mm; Mouser Part Number: N/A; Mouser Price/Stock: https://www.mouser.co.uk/ProductDetail/EPCOS-TDK/B82720S2202N040?qs=pGJ4H8VyKtXccwUD3mHWkQ%3D%3D; Arrow Part Number: B82720S2202N040; Arrow Price/Stock: https://www.arrow.com/en/products/b82720s2202n040/epcos-tdk
footprint B82720S2202N040
pins: 1, 2, 3, 4, 5, 6, 7, 8

## B82804A0264A210
designator T?
Transformer; Manufacturer_Name: TDK; Manufacturer_Part_Number: B82804A0264A210; Datasheet Link: https://product.tdk.com/system/files/dam/doc/product/capacitor/pfc/key-comp_contactor/data_sheet/85/ds/b82804a.pdf; Height: 5.4mm; Mouser Part Number: 871-B82804A264A210; Mouser Price/Stock: https://www.mouser.co.uk/ProductDetail/EPCOS-TDK/B82804A0264A210?qs=LhK6ZUlKh2OPbE6UNLs3YQ%3D%3D
footprint B82804A0264A210
pins: 1 PRI_+, 2 SEC_+_1, 3 SEC_+_2, 4 SEC_-_2, 5 SEC_-_1, 6 PRI_-

## BAT46WJ,115
designator D?
Schottky Diode; Manufacturer_Name: Nexperia; Manufacturer_Part_Number: BAT46WJ,115; Datasheet Link: https://assets.nexperia.com/documents/data-sheet/BAT46WJ.pdf; Height: 0.8mm; Mouser Part Number: 771-BAT46WJ115; Mouser Price/Stock: https://www.mouser.co.uk/ProductDetail/Nexperia/BAT46WJ115?qs=0kdNCY%252BdvEBTfZilQVwWsg%3D%3D; Arrow Part Number: BAT46WJ,115; Arrow Price/Stock: https://www.arrow.com/en/products/bat46wj115/nexperia?region=europe
footprint SODFL2512X80N
pins: 1 K, 2 A

## BC846BLP4-7B
designator Q?
Transistor BJT NPN; Manufacturer_Name: Diodes Incorporated; Manufacturer_Part_Number: BC846BLP4-7B; Datasheet Link: https://www.diodes.com/assets/Datasheets/BC846BLP4.pdf; Mouser Part Number: 621-BC846BLP4-7B; Mouser Price/Stock: https://www.mouser.co.uk/ProductDetail/Diodes-Incorporated/BC846BLP4-7B/?qs=gfe7vQ8txpX1c%252Be2M7wx3g%3D%3D; Arrow Part Number: BC846BLP4-7B; Arrow Price/Stock: https://www.arrow.com/en/products/bc846blp4-7b/diodes-incorporated
footprint X-DFN1006-3
pins: 1 C, 2 B, 3 E

## BC847BPN
designator Q?
Transistor; Manufacturer_Name: PANJIT; Manufacturer_Part_Number: BC847BPN; Datasheet Link: https://www.panjit.com.tw/upload/datasheet/BC847BPN.pdf; Height: 1.1mm
footprint SOT65P210X110-6N
pins: 1 E_1, 2 B_1, 3 C_1, 4 E_2, 5 B_2, 6 C_2

## BH-18650-B1BA002
designator BT?
Battery; Manufacturer_Name: MYOUNG; Manufacturer_Part_Number: BH-18650-B1BA002; Datasheet Link: https://datasheet.lcsc.com/lcsc/2204021730_MYOUNG-BH-18650-B1BA002_C2988620.pdf; Height: 15.06mm
footprint BH18650B1BA002
pins: 1 +, 2 -

## BZX84C27
designator IC?
Integrated Circuit; Manufacturer_Name: onsemi; Manufacturer_Part_Number: BZX84C27; Datasheet Link: https://datasheet.datasheetarchive.com/originals/distributors/Datasheets_SAMA/149fc8ee07d4919a2a63bc6ced8896db.pdf; Height: 1.11mm; Mouser Part Number: 512-BZX84C27; Mouser Price/Stock: https://www.mouser.com/Search/Refine.aspx?Keyword=512-BZX84C27
footprint SOT96P237X111-3N
pins: 1 A, 2 NC, 3 K

## BZX84C39LT1G
designator Z?
Zener Diode; Manufacturer_Name: onsemi; Manufacturer_Part_Number: BZX84C39LT1G; Datasheet Link: http://www.onsemi.com/pub/Collateral/BZX84C2V4LT1-D.PDF; Height: 1.11mm; Mouser Part Number: 863-BZX84C39LT1G; Mouser Price/Stock: https://www.mouser.co.uk/ProductDetail/ON-Semiconductor/BZX84C39LT1G?qs=vNc2DXHODiLIB0iZ77FYzA%3D%3D; Arrow Part Number: BZX84C39LT1G; Arrow Price/Stock: https://www.arrow.com/en/products/bzx84c39lt1g/on-semiconductor
footprint SOT96P237X111-3N
pins: 1 A, 2 NC, 3 K

## BZX384-C12,115
designator Z?
Zener Diode; Manufacturer_Name: Nexperia; Manufacturer_Part_Number: BZX384-C12,115; Datasheet Link: http://www.nxp.com/documents/data_sheet/BZX384_SERIES.pdf; Height: 1.1mm; Mouser Part Number: 771-BZX384-C12115; Mouser Price/Stock: https://www.mouser.co.uk/ProductDetail/Nexperia/BZX384-C12115?qs=me8TqzrmIYUt7sXqf4vYAA%3D%3D; Arrow Part Number: BZX384-C12,115; Arrow Price/Stock: https://www.arrow.com/en/products/bzx384-c12115/nexperia
footprint SOD2512X110N
pins: 1 K, 2 A

## C0603C103K5RACTU
designator C?
Capacitor; Manufacturer_Name: Kemet; Manufacturer_Part_Number: C0603C103K5RACTU; Datasheet Link: https://datasheet.datasheetarchive.com/originals/distributors/Datasheets-DGA10/2404579.pdf; Height: 0.87mm; Mouser Part Number: 80-C0603C103K5R; Mouser Price/Stock: https://www.mouser.co.uk/ProductDetail/KEMET/C0603C103K5RACTU?qs=aZBT8IJKz4hu1X55tMAU6Q%3D%3D; Arrow Part Number: C0603C103K5RACTU; Arrow Price/Stock: https://www.arrow.com/en/products/c0603c103k5ractu/kemet-corporation
footprint CAPC1608X87N
pins: 1, 2

## C0805C106K8PACTU-2.5
designator C?
Capacitor; Manufacturer_Name: Kemet; Manufacturer_Part_Number: C0805C106K8PACTU-2.5; Datasheet Link: https://www.kemet.com/specsheet/C0805C106K8PACTU; Height: 1.4mm; Mouser Part Number: N/A; Mouser Price/Stock: https://www.mouser.com/Search/Refine.aspx?Keyword=N%2FA
footprint CAPC2012X140N
pins: 1, 2

## C961U222MWWDBA7317
designator C?
Capacitor; Manufacturer_Name: KEMET; Manufacturer_Part_Number: C961U222MWWDBA7317; Datasheet Link: https://content.kemet.com/datasheets/KEM_C1066_X1_760_VAC_Y1_500_VAC.pdf; Height: 17mm; Mouser Part Number: 80-C961U222MWWDBAP; Mouser Price/Stock: https://www.mouser.co.uk/ProductDetail/KEMET/C961U222MWWDBA7317?qs=xIpY4gsFVQG2hFCviAFMvw%3D%3D; Arrow Part Number: C961U222MWWDBA7317; Arrow Price/Stock: https://www.arrow.com/en/products/c961u222mwwdba7317/kemet-corporation
footprint C961U222MWWDBA7317
pins: 1, 2

## C1210C333JBGACTU
designator C?
Capacitor; Manufacturer_Name: KEMET; Manufacturer_Part_Number: C1210C333JBGACTU; Datasheet Link: https://content.kemet.com/datasheets/KEM_C1009_C0G_HV_SMD.pdf; Mouser Part Number: 80-C1210C333JBGACTU; Mouser Price/Stock: https://www.mouser.co.uk/ProductDetail/KEMET/C1210C333JBGACTU?qs=Zz7%252BYVVL6bE7Deut%2FBgjoQ%3D%3D
footprint C1210
pins: 1, 2

## C3216X5R0J226M160AA
designator C?
Capacitor; Manufacturer_Name: TDK; Manufacturer_Part_Number: C3216X5R0J226M160AA; Datasheet Link: https://product.tdk.com/info/en/catalog/datasheets/mlcc_commercial_midvoltage_en.pdf; Height: 1.8mm; Mouser Part Number: 810-C3216X5R0J226M-6; Mouser Price/Stock: https://www.mouser.com/Search/Refine.aspx?Keyword=810-C3216X5R0J226M-6
footprint CAPC3216X180N
pins: 1, 2

## CA025M0100REE-0806
designator C?
Capacitor Polarised; Manufacturer_Name: KEMET; Manufacturer_Part_Number: CA025M0100REE-0806; Datasheet Link: https://www.arrow.com/en/products/ca025m0100ree-0806/yageo; Height: 6.8mm; Mouser Part Number: N/A; Mouser Price/Stock: https://www.mouser.com/Search/Refine.aspx?Keyword=N%2FA; Arrow Part Number: CA025M0100REE-0806; Arrow Price/Stock: https://www.arrow.com/en/products/ca025m0100ree-0806/yageo
footprint CAPAE830X680N
pins: 1 +, 2 -

## CCLD-033-50-100.000
designator Y?
Crystal or Oscillator; Manufacturer_Name: Crystek; Manufacturer_Part_Number: CCLD-033-50-100.000; Datasheet Link: http://www.crystek.com/crystal/spec-sheets/clock/CCLD-033.pdf; Height: 1.8mm; Mouser Part Number: 549-CCLD033-50-100; Mouser Price/Stock: https://www.mouser.co.uk/ProductDetail/Crystek-Corporation/CCLD-033-50-100000?qs=SZbbnLfOXtYyWWt1giYaSw%3D%3D
footprint CCLD03350100000
pins: 1 ENABLE/DISABLE, 2 N/C, 3 GND, 4 OUTPUT, 5 COMP_OUTPUT, 6 VCC

## CKC21C472JJGACAUTO
designator C?
Capacitor; Manufacturer_Name: Kemet; Manufacturer_Part_Number: CKC21C472JJGACAUTO; Datasheet Link: https://connect.kemet.com:7667/gateway/IntelliData-ComponentDocumentation/1.0/download/specsheet/CKC21C472JJGACAUTO; Height: 1.8mm; Mouser Part Number: 80-CKC21C472JJGCAUTO; Mouser Price/Stock: https://www.mouser.co.uk/ProductDetail/KEMET/CKC21C472JJGACAUTO?qs=rI7uf1IzohSeOdOdM%2FJJDQ%3D%3D
footprint CAPC5950X180N
pins: 1, 2

## CPF0201D10K2C1
designator R?
Resistor; Manufacturer_Name: TE Connectivity; Manufacturer_Part_Number: CPF0201D10K2C1; Datasheet Link: http://www.te.com/commerce/DocumentDelivery/DDEController?Action=showdoc&DocId=Data+Sheet%7F1773200-1%7FA%7Fpdf%7FEnglish%7FENG_DS_1773200-1_A.pdf%7F4-2176215-6; Height: 0.28mm; Mouser Part Number: N/A; Mouser Price/Stock: https://www.mouser.com/Search/Refine.aspx?Keyword=N%2FA
footprint RESC0603X28N
pins: 1, 2

## CPF0201D100RE1
designator R?
Resistor; Manufacturer_Name: TE Connectivity; Manufacturer_Part_Number: CPF0201D100RE1; Datasheet Link: http://www.te.com/commerce/DocumentDelivery/DDEController?Action=showdoc&DocId=Data+Sheet%7F1773200-1%7FA%7Fpdf%7FEnglish%7FENG_DS_1773200-1_A.pdf%7F4-2176215-6; Height: 0.28mm; Mouser Part Number: 279-CPF0201D100RE1; Mouser Price/Stock: https://www.mouser.co.uk/ProductDetail/TE-Connectivity-Holsworthy/CPF0201D100RE1?qs=gt1LBUVyoHlmoWock10t3Q%3D%3D; Arrow Part Number: CPF0201D100RE1; Arrow Price/Stock: https://www.arrow.com/en/products/cpf0201d100re1/te-connectivity?region=nac
footprint RESC0603X28N
pins: 1, 2

## CPF0805B100RE1
designator R?
Resistor; Manufacturer_Name: TE Connectivity; Manufacturer_Part_Number: CPF0805B100RE1; Datasheet Link: https://datasheet.datasheetarchive.com/originals/distributors/DKDS-21/401696.pdf; Height: 0.65mm; Mouser Part Number: 279-CPF0805B100RE1; Mouser Price/Stock: https://www.mouser.co.uk/ProductDetail/TE-Connectivity-Holsworthy/CPF0805B100RE1?qs=9ylKvqdyudkCWLPT1QvLZQ%3D%3D; Arrow Part Number: CPF0805B100RE1; Arrow Price/Stock: https://www.arrow.com/en/products/cpf0805b100re1/te-connectivity?region=nac
footprint RESC2012X65N
pins: 1, 2

## CR0603-FX-1003ELF
designator R?
Resistor; Manufacturer_Name: Bourns; Manufacturer_Part_Number: CR0603-FX-1003ELF; Datasheet Link: https://www.bourns.com/pdfs/chpreztr.pdf; Height: 0.55mm; Mouser Part Number: 652-CR0603-FX-103ELF; Mouser Price/Stock: https://www.mouser.co.uk/ProductDetail/Bourns/CR0603-FX-1003ELF/?qs=K5ddiUFZPT49r0RoKWcKqg%3D%3D; Arrow Part Number: CR0603-FX-1003ELF; Arrow Price/Stock: https://www.arrow.com/en/products/cr0603-fx-1003elf/bourns
footprint RESC1608X55N
pins: 1, 2

## CR1206-FW-2214ELF
designator R?
Resistor; Manufacturer_Name: Bourns; Manufacturer_Part_Number: CR1206-FW-2214ELF; Height: 0.75mm; Mouser Part Number: 652-CR1206-FW2214ELF; Mouser Price/Stock: https://www.mouser.co.uk/ProductDetail/Bourns/CR1206-FW-2214ELF?qs=5aG0NVq1C4wWlzkt5WE%2FTQ%3D%3D; Arrow Part Number: CR1206-FW-2214ELF; Arrow Price/Stock: https://www.arrow.com/en/products/cr1206-fw-2214elf/bourns
footprint RESC3216X75N
pins: 1, 2

## CRCW08051K00FKTC
designator R?
Resistor; Manufacturer_Name: Vishay; Manufacturer_Part_Number: CRCW08051K00FKTC; Datasheet Link: http://www.vishay.com/docs/20035/dcrcwe3.pdf; Height: 0.5mm; Mouser Part Number: 71-CRCW08051K00FKTC; Mouser Price/Stock: https://www.mouser.co.uk/ProductDetail/Vishay-Dale/CRCW08051K00FKTC?qs=7lMtFQ21GD%2FEWL84NNePCQ%3D%3D
footprint RESC2012X50N
pins: 1, 2

## CRCW0603150KFKEA
designator R?
Resistor; Manufacturer_Name: Vishay; Manufacturer_Part_Number: CRCW0603150KFKEA; Datasheet Link: http://www.vishay.com/docs/20035/dcrcwe3.pdf; Height: 0.5mm; Mouser Part Number: 71-CRCW0603-150K-E3; Mouser Price/Stock: https://www.mouser.co.uk/ProductDetail/Vishay-Dale/CRCW0603150KFKEA/?qs=QmX%2FbU8Gn6Uk4lBryo0pMQ%3D%3D; Arrow Part Number: CRCW0603150KFKEA; Arrow Price/Stock: https://www.arrow.com/en/products/crcw0603150kfkea/vishay
footprint RESC1608X50N
pins: 1, 2

## CRCW12100000Z0EAHP
designator R?
Resistor; Manufacturer_Name: Vishay; Manufacturer_Part_Number: CRCW12100000Z0EAHP; Datasheet Link: http://componentsearchengine.com/Datasheets/1/CRCW12100000Z0EAHP.pdf; Height: 0.7mm; Mouser Part Number: 71-CRCW12100000Z0EAH; Mouser Price/Stock: https://www.mouser.co.uk/ProductDetail/Vishay-Dale/CRCW12100000Z0EAHP?qs=40TFAHZMFvfh5Vmu%2FUuCPQ%3D%3D; Arrow Part Number: CRCW12100000Z0EAHP; Arrow Price/Stock: https://www.arrow.com/en/products/crcw12100000z0eahp/vishay
footprint RESC3225X70N
pins: 1, 2

## CRCW25120000Z0EH
designator R?
Resistor; Manufacturer_Name: Vishay; Manufacturer_Part_Number: CRCW25120000Z0EH; Datasheet Link: http://www.vishay.com/docs/20035/dcrcwe3.pdf; Height: 0.7mm; Mouser Part Number: 71-CRCW25120000Z0EH; Mouser Price/Stock: https://www.mouser.co.uk/ProductDetail/Vishay-Dale/CRCW25120000Z0EH?qs=IAIBpW%252BY8SG2gkrpTXLbZg%3D%3D
footprint RESC6332X70N
pins: 1, 2

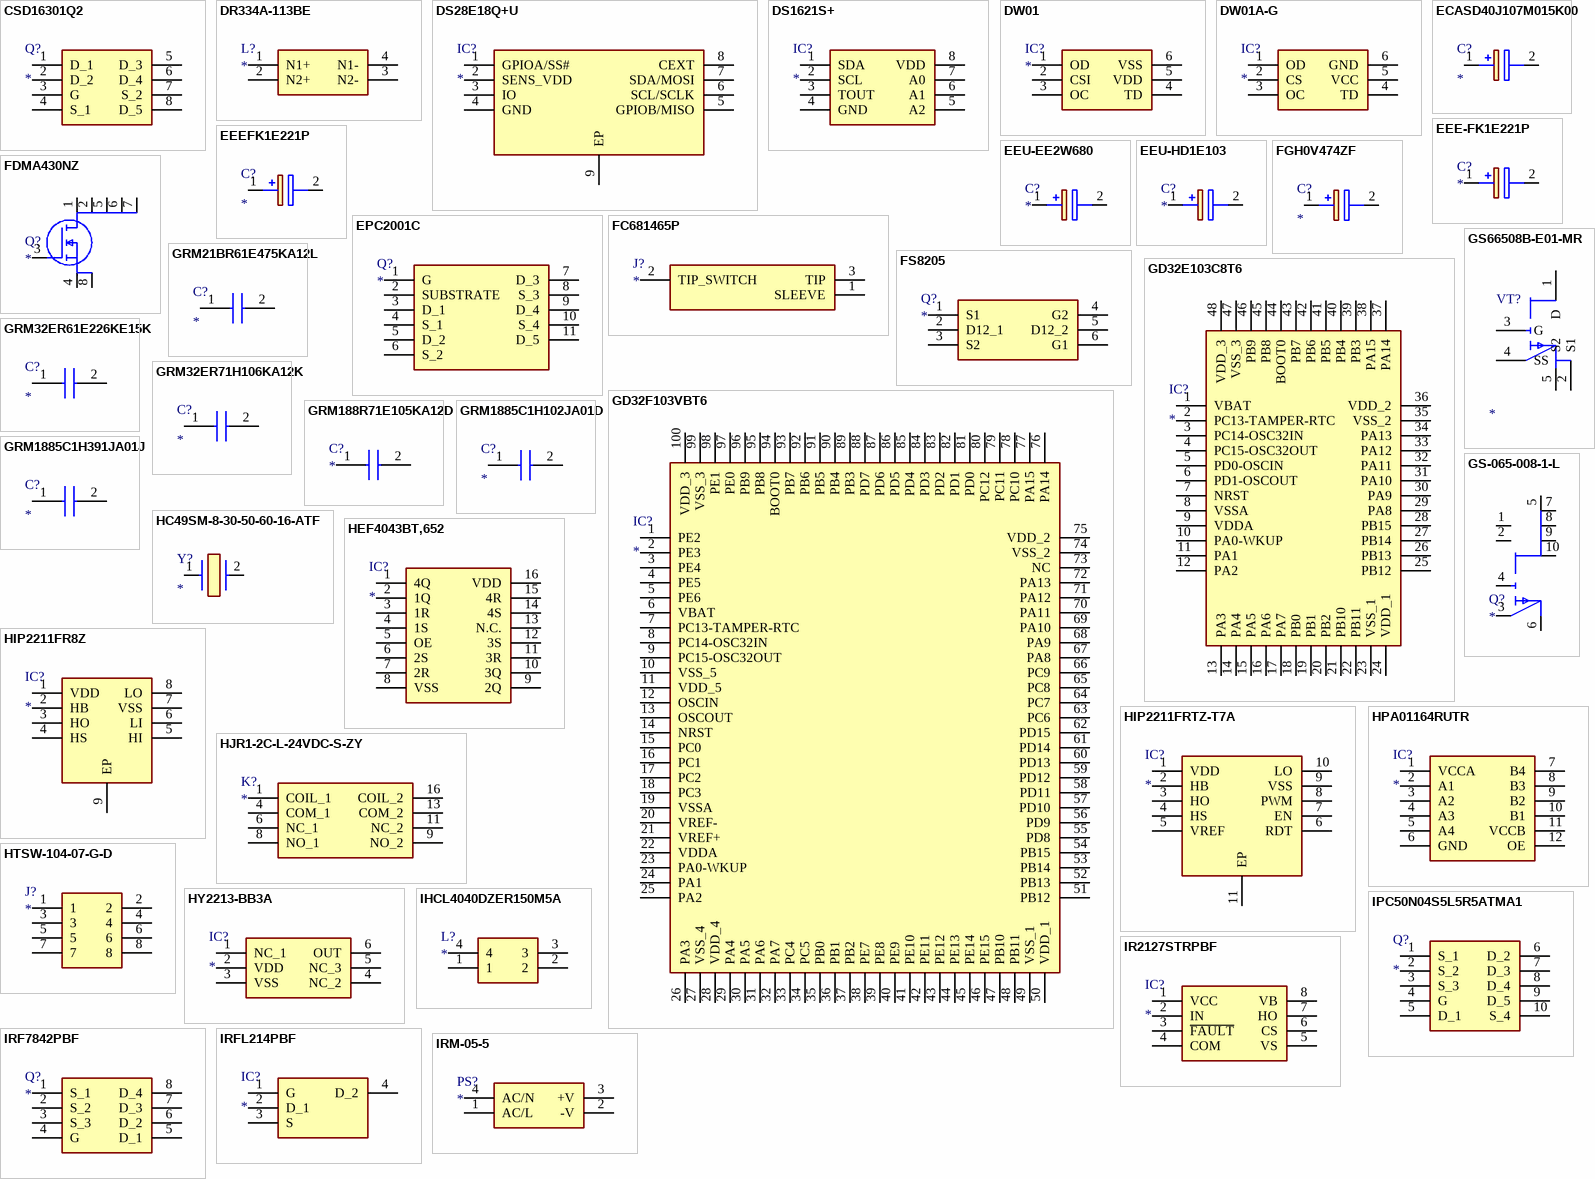
[diagram p2: symbols CSD16301Q2 to IRM-05-5]

## CSD16301Q2
designator Q?
MOSFET (N-Channel); Manufacturer_Name: Texas Instruments; Manufacturer_Part_Number: CSD16301Q2; Datasheet Link: http://www.farnell.com/datasheets/2060288.pdf; Height: 0.8mm; Mouser Part Number: 595-CSD16301Q2; Mouser Price/Stock: https://www.mouser.co.uk/ProductDetail/Texas-Instruments/CSD16301Q2?qs=6eIRK1XQNPbc2iRancB5Tw%3D%3D; Arrow Part Number: CSD16301Q2; Arrow Price/Stock: https://www.arrow.com/en/products/csd16301q2/texas-instruments?region=nac
footprint CSD16301Q2
pins: 1 D_1, 2 D_2, 3 G, 4 S_1, 5 D_3, 6 D_4, 7 S_2, 8 D_5

## DR334A-113BE
designator L?
Inductor; Manufacturer_Name: Bourns; Manufacturer_Part_Number: DR334A-113BE; Datasheet Link: https://static6.arrow.com/aropdfconversion/cbc2b3c15bfb8028088945bace316d9deace6c8e/dr334a_datasheet.pdf; Mouser Part Number: 652-DR334A-113BE; Mouser Price/Stock: https://www.mouser.co.uk/ProductDetail/Bourns/DR334A-113BE?qs=bAKSY%2FctAC6jRKkv3HJSzg%3D%3D; Arrow Part Number: DR334A-113BE; Arrow Price/Stock: https://www.arrow.com/en/products/dr334a-113be/bourns
footprint DR334A104AE
pins: 1 N1+, 2 N2+, 3 N2-, 4 N1-

## DS28E18Q+U
designator IC?
Integrated Circuit; Manufacturer_Name: Maxim Integrated; Manufacturer_Part_Number: DS28E18Q+U; Datasheet Link: https://datasheets.maximintegrated.com/en/ds/DS28E18.pdf; Height: 0.8mm; Mouser Part Number: 700-DS28E18Q+U; Mouser Price/Stock: https://www.mouser.co.uk/ProductDetail/Maxim-Integrated/DS28E18Q%2bU?qs=sPbYRqrBIVn6VdUfzebsOw%3D%3D
footprint SON50P300X200X80-9N
pins: 1 GPIOA/SS#, 2 SENS_VDD, 3 IO, 4 GND, 5 GPIOB/MISO, 6 SCL/SCLK, 7 SDA/MOSI, 8 CEXT, 9 EP

## DS1621S+
designator IC?
Integrated Circuit; Manufacturer_Name: Maxim Integrated; Manufacturer_Part_Number: DS1621S+; Datasheet Link: http://datasheets.maximintegrated.com/en/ds/DS1621.pdf; Height: 1.75mm; Mouser Part Number: 700-DS1621S; Mouser Price/Stock: https://www.mouser.co.uk/ProductDetail/Maxim-Integrated/DS1621S%2b?qs=7H2Jq%252ByxpJJ1%2F%252BsYK3Y86g%3D%3D
footprint SOIC127P600X175-8N
pins: 1 SDA, 2 SCL, 3 TOUT, 4 GND, 5 A2, 6 A1, 7 A0, 8 VDD

## DW01
designator IC?
Integrated Circuit; Manufacturer_Name: Slkor; Manufacturer_Part_Number: DW01; Datasheet Link: https://datasheet.lcsc.com/szlcsc/1906271838_SLKORMICRO-Elec-DW01_C359989.pdf; Height: 1.35mm
footprint SOT95P280X135-6N
pins: 1 OD, 2 CSI, 3 OC, 4 TD, 5 VDD, 6 VSS

## DW01A-G
designator IC?
Integrated Circuit; Manufacturer_Name: Fortune Semiconductor Corporation; Manufacturer_Part_Number: DW01A-G; Description: One Cell Lithium-ion/Polymer Battery Protection IC; Datasheet Link: http://acoptex.com/uploads/DW01A.pdf; Height: 1.35mm
footprint SOT95P280X135-6N
pins: 1 OD, 2 CS, 3 OC, 4 TD, 5 VCC, 6 GND

## ECASD40J107M015K00
designator C?
Capacitor Polarised; Manufacturer_Name: Murata Electronics; Manufacturer_Part_Number: ECASD40J107M015K00; Datasheet Link: https://www.mouser.com/datasheet/2/281/c90e-1501405.pdf; Height: 2mm; Mouser Part Number: 81-ECASD40J107M015K0; Mouser Price/Stock: https://www.mouser.co.uk/ProductDetail/Murata-Electronics/ECASD40J107M015K00?qs=ARJTbBigCIzj8MGk63Vb1w%3D%3D; Arrow Part Number: ECASD40J107M015K00; Arrow Price/Stock: https://www.arrow.com/en/products/ecasd40j107m015k00/murata-manufacturing?region=nac
footprint CAPPM7343X200N
pins: 1 +, 2 -

## EEE-FK1E221P
designator C?
Capacitor Polarised; Manufacturer_Name: Panasonic; Manufacturer_Part_Number: EEE-FK1E221P; Datasheet Link: http://industrial.panasonic.com/cdbs/www-data/pdf/RDE0000/ABA0000C1181.pdf; Height: 10mm; Mouser Part Number: 667-EEE-FK1E221P; Mouser Price/Stock: https://www.mouser.co.uk/ProductDetail/Panasonic/EEE-FK1E221P?qs=qE6bgDGEOCvP18yiJE3Ogw%3D%3D; Arrow Part Number: EEE-FK1E221P; Arrow Price/Stock: https://www.arrow.com/en/products/eee-fk1e221p/panasonic
footprint SMD_Lytic_F
pins: 1 +, 2 -

## EEEFK1E221P
designator C?
Capacitor Polarised; Manufacturer_Name: Panasonic; Manufacturer_Part_Number: EEEFK1E221P; Datasheet Link: http://industrial.panasonic.com/cdbs/www-data/pdf/RDE0000/ABA0000C1181.pdf; Height: 10mm
footprint SMD_Lytic_F
pins: 1 +, 2 -

## EEU-EE2W680
designator C?
Capacitor Polarised; Manufacturer_Name: Panasonic; Manufacturer_Part_Number: EEU-EE2W680; Datasheet Link: http://industrial.panasonic.com/cdbs/www-data/pdf/RDF0000/ABA0000C1026.pdf; Height: 42mm
footprint CAPPRD750W85D1800H4200
pins: 1 +, 2 -

## EEU-HD1E103
designator C?
Capacitor Polarised; Manufacturer_Name: Panasonic; Manufacturer_Part_Number: EEU-HD1E103; Datasheet Link: http://industrial.panasonic.com/cdbs/www-data/pdf/RDF0000/ABA0000C1035.pdf; Height: 37.5mm; Mouser Part Number: 667-EEU-HD1E103; Mouser Price/Stock: https://www.mouser.co.uk/ProductDetail/Panasonic/EEU-HD1E103?qs=RSvpxwwo2RPKKVauGdmAoA%3D%3D; Arrow Part Number: EEU-HD1E103; Arrow Price/Stock: https://www.arrow.com/en/products/eeu-hd1e103/panasonic
footprint CAPPRD750W85D1800H3750
pins: 1 +, 2 -

## EPC2001C
designator Q?
Transistor; Manufacturer_Name: Efficient Power Conversion; Manufacturer_Part_Number: EPC2001C; Datasheet Link: https://datasheet.datasheetarchive.com/originals/dk/DKDS-8/147056.pdf; Height: 0.815mm; Arrow Part Number: EPC2001C; Arrow Price/Stock: https://www.arrow.com/en/products/epc2001c/efficient-power-conversion-corporation
footprint EPC2001C
pins: 1 G, 2 SUBSTRATE, 3 D_1, 4 S_1, 5 D_2, 6 S_2, 7 D_3, 8 S_3, 9 D_4, 10 S_4, 11 D_5

## FC681465P
designator J?
Connector; Manufacturer_Name: CLIFF ELECTRONIC COMPONENTS; Manufacturer_Part_Number: FC681465P; Datasheet Link: http://www.farnell.com/datasheets/2286781.pdf; Height: 11mm
footprint FC681465P
pins: 1 SLEEVE, 2 TIP_SWITCH, 3 TIP

## FDMA430NZ
designator Q?
MOSFET (N-Channel); Manufacturer_Name: onsemi; Manufacturer_Part_Number: FDMA430NZ; Datasheet Link: http://www.farnell.com/datasheets/2284112.pdf?_ga=2.22089787.1411412422.1586895806-579369102.1583357490&_gac=1.246702512.1586937566.EAIaIQobChMIlYiNjPvp6AIVia3tCh1qkAmJEAAYASAAEgIxc_D_BwE; Height: 0.85mm; Mouser Part Number: 512-FDMA430NZ; Mouser Price/Stock: https://www.mouser.com/Search/Refine.aspx?Keyword=512-FDMA430NZ; Arrow Part Number: FDMA430NZ; Arrow Price/Stock: https://www.arrow.com/en/products/fdma430nz/on-semiconductor?region=nac
footprint FDMA430NZ
pins: 1 G, 2 G, 3 D, 4 D, 5 D, 6 D, 7 D, 8 D

## FGH0V474ZF
designator C?
Capacitor Polarised; Manufacturer_Name: Kemet; Manufacturer_Part_Number: FGH0V474ZF; Datasheet Link: https://content.kemet.com/datasheets/KEM_S6013_FG.pdf; Height: 7.5mm; Mouser Part Number: 80-FGH0V474ZF; Mouser Price/Stock: https://www.mouser.co.uk/ProductDetail/KEMET/FGH0V474ZF?qs=iaWy59%2Fd4KCkWSZfTIxxzw%3D%3D; Arrow Part Number: FGH0V474ZF; Arrow Price/Stock: https://www.arrow.com/en/products/fgh0v474zf/kemet-corporation
footprint CAPPRD508W139D1300H750
pins: 1 +, 2 -

## FS8205
designator Q?
MOSFET (N-Channel); Manufacturer_Name: Fortune Semiconductor Corporation; Manufacturer_Part_Number: FS8205; Datasheet Link: https://www.ic-fortune.com/upload/Download/FS8205-DS-19_EN.pdf; Height: 1mm
footprint FS8205
pins: 1 S1, 2 D12_1, 3 S2, 4 G2, 5 D12_2, 6 G1

## GD32E103C8T6
designator IC?
Integrated Circuit; Manufacturer_Name: GigaDevice; Manufacturer_Part_Number: GD32E103C8T6; Datasheet Link: https://www.gigadevice.com/zh-hans/datasheet/gd32e103xxxx-datasheet/; Height: 1.6mm
footprint QFP50P900X900X160-48N-D
pins: 1 VBAT, 2 PC13-TAMPER-RTC, 3 PC14-OSC32IN, 4 PC15-OSC32OUT, 5 PD0-OSCIN, 6 PD1-OSCOUT, 7 NRST, 8 VSSA, 9 VDDA, 10 PA0-WKUP, 11 PA1, 12 PA2, 13 PA3, 14 PA4, 15 PA5, 16 PA6, 17 PA7, 18 PB0, 19 PB1, 20 PB2, 21 PB10, 22 PB11, 23 VSS_1, 24 VDD_1, 25 PB12, 26 PB13, 27 PB14, 28 PB15, 29 PA8, 30 PA9, 31 PA10, 32 PA11, 33 PA12, 34 PA13, 35 VSS_2, 36 VDD_2, 37 PA14, 38 PA15, 39 PB3, 40 PB4, 41 PB5, 42 PB6, 43 PB7, 44 BOOT0, 45 PB8, 46 PB9, 47 VSS_3, 48 VDD_3

## GD32F103VBT6
designator IC?
Integrated Circuit; Manufacturer_Name: GigaDevice Semicon Beijing; Manufacturer_Part_Number: GD32F103VBT6; Datasheet Link: https://www.gigadevice.com/datasheet/gd32f103xxxx-datasheet/; Height: 1.6mm
footprint QFP50P1600X1600X160-100N
pins: 1 PE2, 2 PE3, 3 PE4, 4 PE5, 5 PE6, 6 VBAT, 7 PC13-TAMPER-RTC, 8 PC14-OSC32IN, 9 PC15-OSC32OUT, 10 VSS_5, 11 VDD_5, 12 OSCIN, 13 OSCOUT, 14 NRST, 15 PC0, 16 PC1, 17 PC2, 18 PC3, 19 VSSA, 20 VREF-, 21 VREF+, 22 VDDA, 23 PA0-WKUP, 24 PA1, 25 PA2, 26 PA3, 27 VSS_4, 28 VDD_4, 29 PA4, 30 PA5, 31 PA6, 32 PA7, 33 PC4, 34 PC5, 35 PB0, 36 PB1, 37 PB2, 38 PE7, 39 PE8, 40 PE9, 41 PE10, 42 PE11, 43 PE12, 44 PE13, 45 PE14, 46 PE15, 47 PB10, 48 PB11, 49 VSS_1, 50 VDD_1, 51 PB12, 52 PB13, 53 PB14, 54 PB15, 55 PD8, 56 PD9, 57 PD10, 58 PD11, 59 PD12, 60 PD13, 61 PD14, 62 PD15, 63 PC6, 64 PC7, 65 PC8, 66 PC9, 67 PA8, 68 PA9, 69 PA10, 70 PA11, 71 PA12, 72 PA13, 73 NC, 74 VSS_2, 75 VDD_2, 76 PA14, 77 PA15, 78 PC10, 79 PC11, 80 PC12, 81 PD0, 82 PD1, 83 PD2, 84 PD3, 85 PD4, 86 PD5, 87 PD6, 88 PD7, 89 PB3, 90 PB4, 91 PB5, 92 PB6, 93 PB7, 94 BOOT0, 95 PB8, 96 PB9, 97 PE0, 98 PE1, 99 VSS_3, 100 VDD_3

## GRM21BR61E475KA12L
designator C?
Capacitor; Manufacturer_Name: Murata Electronics; Manufacturer_Part_Number: GRM21BR61E475KA12L; Datasheet Link: https://datasheet.datasheetarchive.com/originals/distributors/Datasheets_SAMA/f1c5c80e1f9f0cb79b605f26f59e394a.pdf; Height: 1.45mm; Mouser Part Number: 81-GRM21BR61E475KA12; Mouser Price/Stock: https://www.mouser.co.uk/ProductDetail/Murata-Electronics/GRM21BR61E475KA12L?qs=0E7Ycue1i8A0OYXyRL9B%252Bw%3D%3D; Arrow Part Number: GRM21BR61E475KA12L; Arrow Price/Stock: https://www.arrow.com/en/products/grm21br61e475ka12l/murata-manufacturing
footprint CAPC2012X145N
pins: 1, 2